# Altium schematic symbol library MLX90640.SchLib: 1 symbol
Pins are listed as number, name and electrical type; pins without a type are passive.

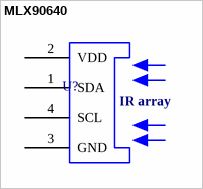
[diagram p0: symbol MLX90640]

## MLX90640
designator U?
MLX90640 32x24 IR array
footprint TO39-4
pins: 1 SDA, 2 VDD, 3 GND, 4 SCL
text: IR array